# Altium footprint library CDRH2D18-HP.PcbLib: 1 footprints
Each footprint in its own frame and in the unit in brackets; x right, y up, seen from the top. Pads: shape width x height; smd on the part's side, far side on the other; paste and mask are expansions set on the pad; w line width, h text height; cw(c..) or ccw(c..) is an arc to the next point about the centre after c.
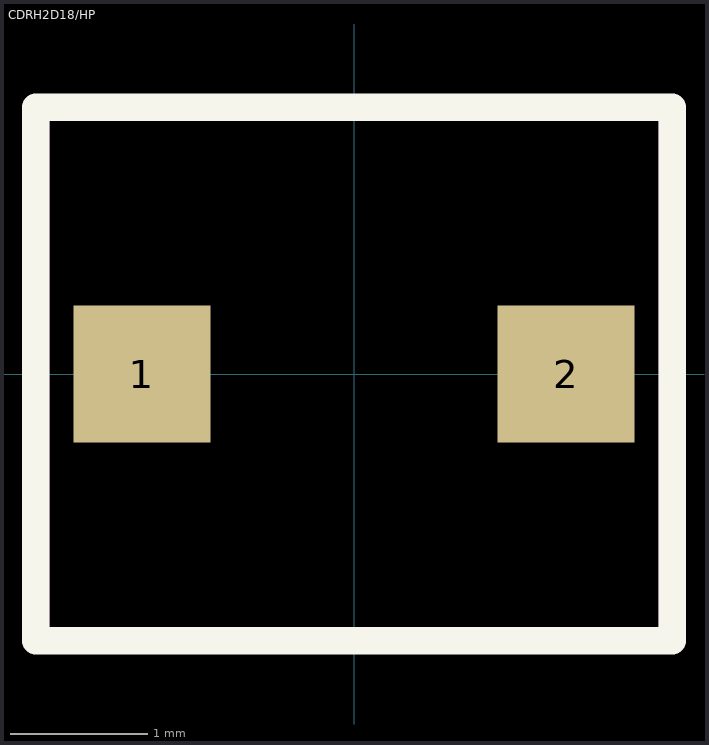
[diagram p0: the footprint, top view; thin cyan lines are the x and y axes]

## CDRH2D18/HP [mm]
height 0.95
pads (2):
  rect 1x1 smd: 1(-1.55,0) 2(1.55,0)
Top Layer:
  region: 0.925,0.5
Top Overlay:
  lines w0.2: -2.325,-1.95 -2.325,1.95 2.325,1.95 2.325,-1.95 -2.325,-1.95
Top Assembly:
  lines w0.1: -2.275,-1.95 2.275,-1.95 2.275,1.95 -2.275,1.95 -2.275,-1.95
  text "'.Designator'" at -0.675,-0.375 h0.8
3D body "User Library-CDRH2D18-1.STEP": height 2, standoff -0.05, extent -2.276,-2.263 2.25,2.263